# Altium footprint library AltiumLibraries.PcbLib: 91 footprints (part 4 of 6)
Each footprint in its own frame and in the unit in brackets; x right, y up, seen from the top. Pads: shape width x height; smd on the part's side, far side on the other; paste and mask are expansions set on the pad; w line width, h text height; cw(c..) or ccw(c..) is an arc to the next point about the centre after c.
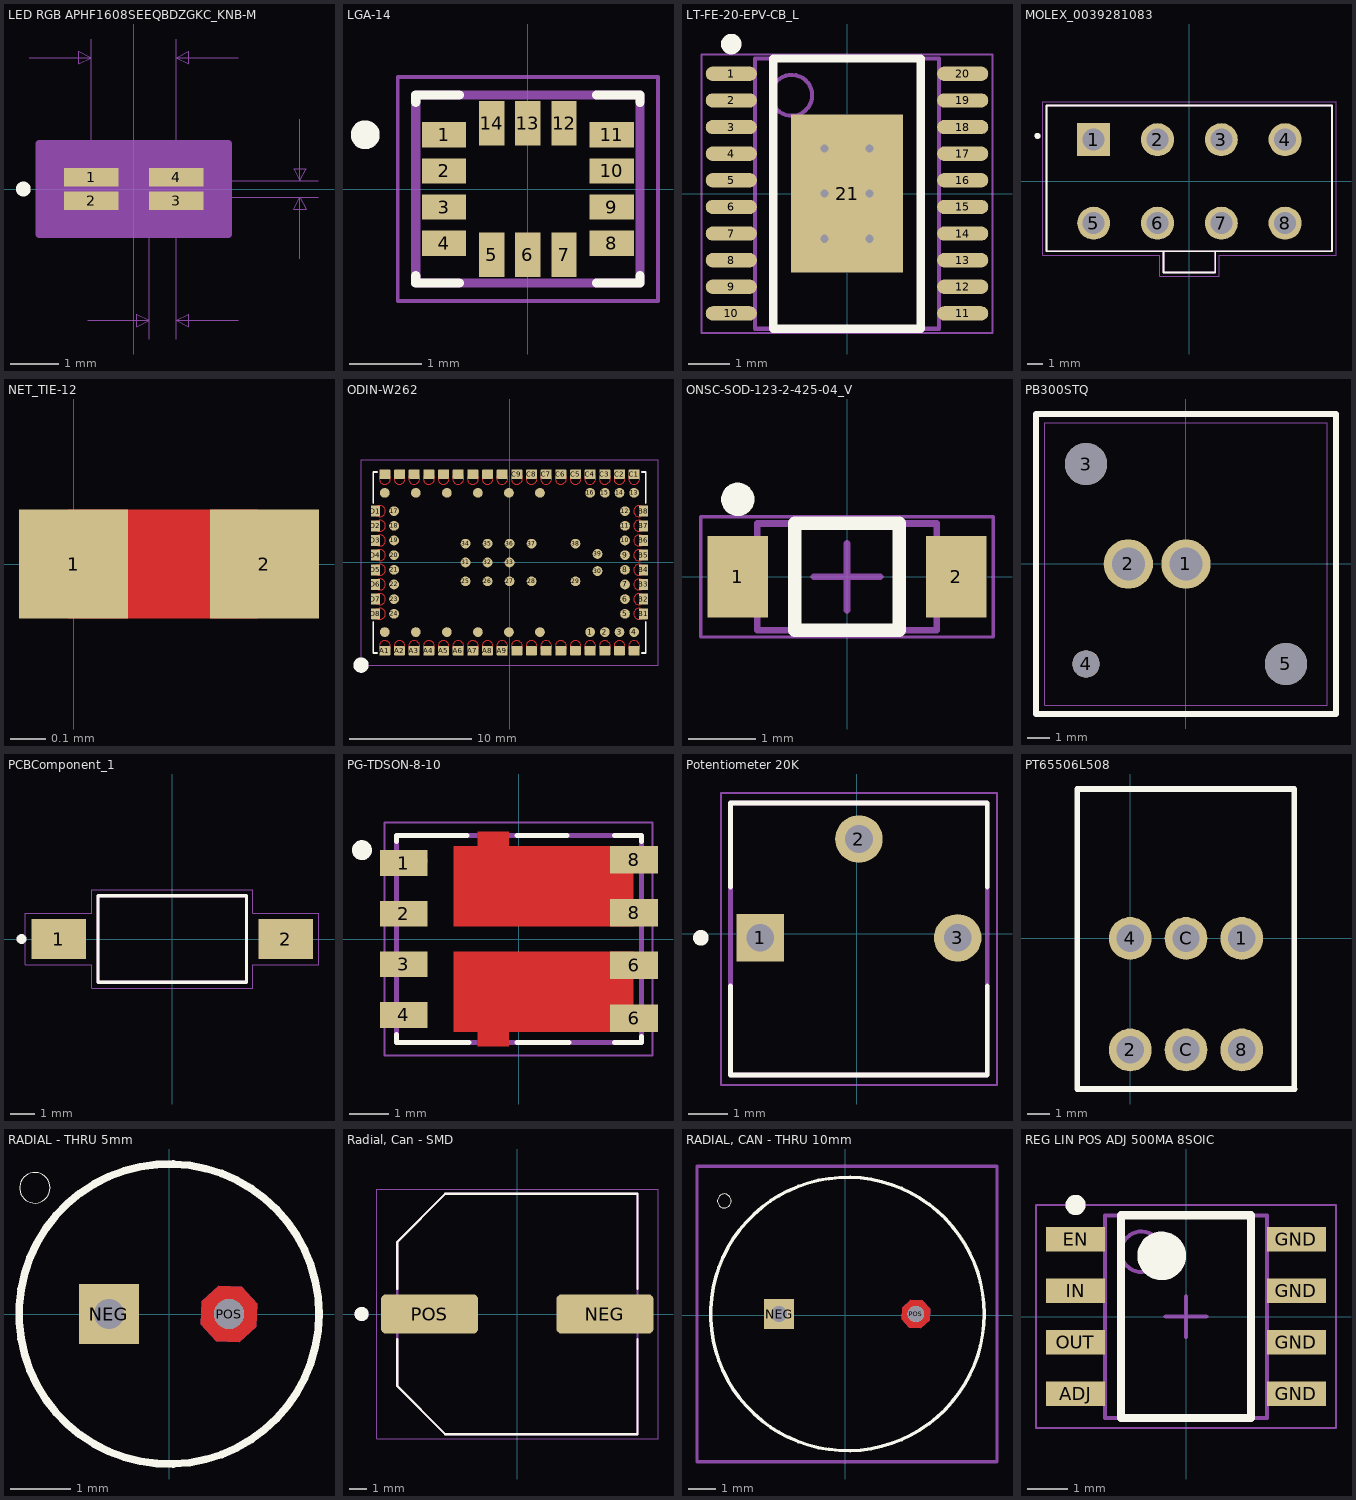
[diagram p3: the footprints below, top view; thin cyan lines are the x and y axes]

## LED RGB APHF1608SEEQBDZGKC_KNB-M [mil]
pads (4):
  rect 44x15 smd paste+0 mask+0: 1(-34.5,9.35) 2(-34.5,-9.35) 3(34.5,-9.35) 4(34.5,9.35)
Top Overlay:
  circle w6: c-89.5,0 r3
Mechanical 5:
  region: 71.5,-22.5 -71.5,-22.5 -71.5,22.5 71.5,22.5
Mechanical 7:
  lines w1: -84.5,106.5 -34.5,106.5 ; -37.5,-106.5 12.5,-106.5 ; -34.5,0 -34.5,121.5 ; 0,-6.5 149.5,-6.5 ; 0,6.5 149.5,6.5 ; 12.5,-121.5 12.5,0 ; 34.5,-121.5 34.5,0 34.5,121.5 ; 84.5,-106.5 34.5,-106.5 ; 84.5,106.5 34.5,106.5 ; 134.5,-56.5 134.5,-6.5 ; 134.5,56.5 134.5,6.5 ; -34.5,106.5 -44.5,111.5 -44.5,101.5 -34.5,106.5 ; 12.5,-106.5 2.5,-101.5 2.5,-111.5 12.5,-106.5 ; 34.5,-106.5 44.5,-101.5 44.5,-111.5 34.5,-106.5 ; 34.5,106.5 44.5,111.5 44.5,101.5 34.5,106.5 ; 134.5,-6.5 129.5,-16.5 139.5,-16.5 134.5,-6.5 ; 134.5,6.5 129.5,16.5 139.5,16.5 134.5,6.5
  text "Default Padstyle: RX44Y15D0T" at -350,-277.5 h50
  text "Alternate 1 Padstyle: OX60Y90D30P" at -412.5,-377.5 h50
  text "Alternate 2 Padstyle: OX90Y60D30P" at -412.5,-477.5 h50
  text "0.013in/0.33mm" at 154.5,-12.5 h25
  text "0.069in/1.753mm" at -93.75,126.5 h25
  text "0.022in/0.559mm" at -70.25,-151.5 h25
Mechanical 13:
  circle w0: c-29.5,9.35 r3
  lines w1: -34.5,-18.5 34.5,-18.5 34.5,18.5 -34.5,18.5 -34.5,-18.5 ; -34.5,-6.5 -34.5,6.5 -12.5,6.5 -12.5,-6.5 -34.5,-6.5 ; 12.5,-6.5 12.5,6.5 34.5,6.5 34.5,-6.5 12.5,-6.5
Mechanical 15:
  region: 76.5,-36.85 -76.5,-36.85 -76.5,36.85 76.5,36.85
  lines w6: -76.5,-36.85 -76.5,36.85 76.5,36.85 76.5,-36.85 -76.5,-36.85
3D body: height 10, standoff 0, extent 0,0 10,10

## LGA-14 [mm]
pads (14):
  rect 0.61x0.35 smd: 1(-1.16,0.75) 2(-1.16,0.25) 3(-1.16,-0.25) 4(-1.16,-0.75) 8(1.16,-0.75) 9(1.16,-0.25) 10(1.16,0.25) 11(1.16,0.75)
  rect 0.35x0.61 smd: 5(-0.5,-0.91) 6(0,-0.91) 7(0.5,-0.91) 12(0.5,0.91) 13(0,0.91) 14(-0.5,0.91)
Top Overlay:
  circle w0.2: c-2.25,0.75 r0.1
  lines w0.127: -1.55,-1.2 -1.55,-1.3 -0.95,-1.3 ; -1.55,1.2 -1.55,1.3 -0.95,1.3 ; 0.95,-1.3 1.55,-1.3 1.55,-1.2 ; 0.95,1.3 1.55,1.3 1.55,1.2
Mechanical 4:
  lines w0.127: -1.55,-1.3 1.55,-1.3 ; -1.55,-1.3 -1.55,1.3 ; -1.55,-1.3 1.55,-1.3 ; -1.55,-1.3 -1.55,1.3 ; -1.55,1.3 1.55,1.3 ; -1.55,1.3 1.55,1.3 ; 1.55,-1.3 1.55,1.3 ; 1.55,-1.3 1.55,1.3
Mechanical 16:
  lines w0.05: -1.8,-1.55 1.8,-1.55 1.8,1.55 -1.8,1.55 -1.8,-1.55

## LT-FE-20-EPV-CB_L [mm] "SOP, 20-Leads, Body 6.6x4.5mm, Pitch 0.65mm, Thermal Pad 3.86x2.74mm, IPC High Density"
height 1.2
pads (21):
  oval 1.25x0.35 smd: 1(-2.825,2.925) 2(-2.825,2.275) 3(-2.825,1.625) 4(-2.825,0.975) 5(-2.825,0.325) 6(-2.825,-0.325) 7(-2.825,-0.975) 8(-2.825,-1.625) 9(-2.825,-2.275) 10(-2.825,-2.925) 11(2.825,-2.925) 12(2.825,-2.275) 13(2.825,-1.625) 14(2.825,-0.975) 15(2.825,-0.325) 16(2.825,0.325) 17(2.825,0.975) 18(2.825,1.625) 19(2.825,2.275) 20(2.825,2.925)
  rect 2.74x3.86 smd: 21(0,0)
via -0.55,1.1 diameter 0.5 hole 0.2
via 0.55,1.1 diameter 0.5 hole 0.2
via -0.55,0 diameter 0.5 hole 0.2
via 0.55,0 diameter 0.5 hole 0.2
via -0.55,-1.1 diameter 0.5 hole 0.2
via 0.55,-1.1 diameter 0.5 hole 0.2
Top Overlay:
  circle w0.25: c-2.825,3.65 r0.125
  lines w0.2: -1.8,-3.3 -1.8,3.3 1.8,3.3 1.8,-3.3 -1.8,-3.3
Mechanical 13:
  circle w0.1: c-1.35,2.4 r0.5
  lines w0.1: -2.25,-3.3 -2.25,3.3 2.25,3.3 2.25,-3.3 -2.25,-3.3
Mechanical 15:
  lines w0.05: -3.55,-3.4 -3.55,3.4 3.55,3.4 3.55,-3.4 -3.55,-3.4
  lines w0.1: -0.5,0 0.5,0 ; 0,-0.5 0,0.5
3D body: height 1.2, standoff 0.05, extent -2.25,-3.3 2.25,3.3

## MOLEX_0039281083 [mm]
pads (8):
  rect 2.175x2.175 hole 1.45: 1(-6.3,2.75)
  round 2.175 hole 1.45: 2(-2.1,2.75) 3(2.1,2.75) 4(6.3,2.75) 5(-6.3,-2.75) 6(-2.1,-2.75) 7(2.1,-2.75) 8(6.3,-2.75)
Top Overlay:
  circle w0.2: c-10,3 r0.1
  lines w0.127: -1.7,-4.6 -9.4,-4.6 -9.4,5 9.4,5 9.4,-4.6 1.7,-4.6 ; -1.7,-4.6 1.7,-4.6 ; -1.7,-4.6 -1.7,-6 1.7,-6 1.7,-4.6
Mechanical 4:
  circle w0.2: c-10,3 r0.1
  circle w0.2: c-10,3 r0.1
  lines w0.127: -9.4,-4.6 -9.4,5 ; -9.4,-4.6 -1.7,-4.6 ; -9.4,-4.6 -9.4,5 ; -9.4,-4.6 -1.7,-4.6 ; -9.4,5 9.4,5 ; -9.4,5 9.4,5 ; -1.7,-6 1.7,-6 ; -1.7,-6 -1.7,-4.6 ; -1.7,-6 1.7,-6 ; -1.7,-6 -1.7,-4.6 ; -1.7,-4.6 1.7,-4.6 ; -1.7,-4.6 1.7,-4.6 ; 1.7,-6 1.7,-4.6 ; 1.7,-6 1.7,-4.6 ; 1.7,-4.6 9.4,-4.6 ; 1.7,-4.6 9.4,-4.6 ; 9.4,-4.6 9.4,5 ; 9.4,-4.6 9.4,5
Mechanical 15:
  lines w0.05: -9.65,-4.85 -1.95,-4.85 -1.95,-6.25 1.95,-6.25 1.95,-4.85 9.65,-4.85 9.65,5.25 -9.65,5.25 -9.65,-4.85

## NET_TIE-12 [mil] "12mil patch for net tie."
pads (2):
  rect 12x12 smd paste-12: 1(0,0) 2(21,0)
Top Layer:
  lines w12: 0,0 19.68,0

## ODIN-W262 [mm]
pads (103):
  round 0.8 smd: 1(6.6,-5.7) 2(7.8,-5.7) 3(9,-5.7) 4(10.2,-5.7) 5(9.45,-4.2) 6(9.45,-3) 7(9.45,-1.8) 8(9.45,-0.6) 9(9.45,0.6) 10(9.45,1.8) 11(9.45,3) 12(9.45,4.2) 13(10.2,5.7) 14(9,5.7) 15(7.8,5.7) 16(6.6,5.7) 17(-9.45,4.2) 18(-9.45,3) 19(-9.45,1.8) 20(-9.45,0.6) 21(-9.45,-0.6) 22(-9.45,-1.8) 23(-9.45,-3) 24(-9.45,-4.2) 25(-3.6,-1.54) 26(-1.8,-1.54) 27(0,-1.54) 28(1.8,-1.54) 29(5.4,-1.54) 30(7.2,-0.7) 31(-3.6,0) 32(-1.8,0) 33(0,0) 34(-3.6,1.54) 35(-1.8,1.54) 36(0,1.54) 37(1.8,1.54) 38(5.4,1.54) 39(7.2,0.7) TP1(2.49,-5.7) TP2(2.49,5.7) TP3(-0.05,-5.7) TP4(-0.05,5.7) TP5(-2.59,-5.7) TP6(-2.59,5.7) TP7(-5.13,-5.7) TP8(-5.13,5.7) TP9(-7.67,-5.7) TP10(-7.67,5.7) TP11(-10.21,-5.7) TP12(-10.21,5.7)
  rrect15% 0.9x0.75 smd paste-1 mask+0: A1(-10.2,-7.225) A2(-9,-7.225) A3(-7.8,-7.225) A4(-6.6,-7.225) A5(-5.4,-7.225) A6(-4.2,-7.225) A7(-3,-7.225) A8(-1.8,-7.225) A9(-0.6,-7.225) A10(0.6,-7.225) A11(1.8,-7.225) A12(3,-7.225) A13(4.2,-7.225) A14(5.4,-7.225) A15(6.6,-7.225) A16(7.8,-7.225) A17(9,-7.225) A18(10.2,-7.225) C1(10.2,7.225) C2(9,7.225) C3(7.8,7.225) C4(6.6,7.225) C5(5.4,7.225) C6(4.2,7.225) C7(3,7.225) C8(1.8,7.225) C9(0.6,7.225) C10(-0.6,7.225) C11(-1.8,7.225) C12(-3,7.225) C13(-4.2,7.225) C14(-5.4,7.225) C15(-6.6,7.225) C16(-7.8,7.225) C17(-9,7.225) C18(-10.2,7.225)
  rrect15% 0.75x0.9 smd paste-1 mask+0: B1(10.975,-4.2) B2(10.975,-3) B3(10.975,-1.8) B4(10.975,-0.6) B5(10.975,0.6) B6(10.975,1.8) B7(10.975,3) B8(10.975,4.2) D1(-10.975,4.2) D2(-10.975,3) D3(-10.975,1.8) D4(-10.975,0.6) D5(-10.975,-0.6) D6(-10.975,-1.8) D7(-10.975,-3) D8(-10.975,-4.2)
Top Layer:
  circle w0: c-3,-6.85 r0.45
  circle w0: c-1.8,-6.85 r0.45
  circle w0: c-0.6,-6.85 r0.45
  circle w0: c0.6,-6.85 r0.45
  circle w0: c1.8,-6.85 r0.45
  circle w0: c3,-6.85 r0.45
  circle w0: c4.2,-6.85 r0.45
  circle w0: c5.4,-6.85 r0.45
  circle w0: c6.6,-6.85 r0.45
  circle w0: c7.8,-6.85 r0.45
  circle w0: c9,-6.85 r0.45
  circle w0: c10.2,-6.85 r0.45
  circle w0: c-10.2,-6.85 r0.45
  circle w0: c-9,-6.85 r0.45
  circle w0: c-7.8,-6.85 r0.45
  circle w0: c-6.6,-6.85 r0.45
  circle w0: c-5.4,-6.85 r0.45
  circle w0: c-4.2,-6.85 r0.45
  circle w0: c3,6.85 r0.45
  circle w0: c1.8,6.85 r0.45
  circle w0: c0.6,6.85 r0.45
  circle w0: c-0.6,6.85 r0.45
  circle w0: c-1.8,6.85 r0.45
  circle w0: c-3,6.85 r0.45
  circle w0: c-4.2,6.85 r0.45
  circle w0: c-5.4,6.85 r0.45
  circle w0: c-6.6,6.85 r0.45
  circle w0: c-7.8,6.85 r0.45
  circle w0: c-9,6.85 r0.45
  circle w0: c-10.2,6.85 r0.45
  circle w0: c10.2,6.85 r0.45
  circle w0: c9,6.85 r0.45
  circle w0: c7.8,6.85 r0.45
  circle w0: c6.6,6.85 r0.45
  circle w0: c5.4,6.85 r0.45
  circle w0: c4.2,6.85 r0.45
  circle w0: c-10.6,4.2 r0.45
  circle w0: c-10.6,3 r0.45
  circle w0: c-10.6,1.8 r0.45
  circle w0: c-10.6,0.6 r0.45
  circle w0: c-10.6,-0.6 r0.45
  circle w0: c-10.6,-1.8 r0.45
  circle w0: c-10.6,-3 r0.45
  circle w0: c-10.6,-4.2 r0.45
  circle w0: c10.6,-4.2 r0.45
  circle w0: c10.6,-3 r0.45
  circle w0: c10.6,-1.8 r0.45
  circle w0: c10.6,-0.6 r0.45
  circle w0: c10.6,0.6 r0.45
  circle w0: c10.6,1.8 r0.45
  circle w0: c10.6,3 r0.45
  circle w0: c10.6,4.2 r0.45
Top Overlay:
  circle w0.75: c-12.15,-8.4 r0.25
  lines w0.15: -11.15,-4.85 -11.15,-7.4 -10.85,-7.4 ; -11.15,4.85 -11.15,7.4 -10.85,7.4 ; 10.85,-7.4 11.15,-7.4 11.15,-4.85 ; 10.85,7.4 11.15,7.4 11.15,4.85
Top Paste:
  drawing of 52 lines, arcs and shapes, not listed
Top Solder:
  drawing of 56 lines, arcs and shapes, not listed
Mechanical 13:
  lines w0.05: -0.5,0 0.5,0 ; 0,-0.5 0,0.5
Mechanical 15:
  lines w0.1: -12.15,-8.4 -12.15,8.4 12.15,8.4 12.15,-8.4 -12.15,-8.4
3D body "ODIN-W262-05B.stp": height 4.8, standoff 0, extent -11.15,-7.4 11.15,7.4

## ONSC-SOD-123-2-425-04_V [mm] "SOD, 2-Leads, Body 2.69x1.6mm"
height 1.35
pads (2):
  rect 0.91x1.22 smd: 1(-1.635,0) 2(1.635,0)
Top Overlay:
  circle w0.25: c-1.635,1.16 r0.125
  lines w0.2: -0.78,-0.8 -0.78,0.8 0.78,0.8 0.78,-0.8 -0.78,-0.8
Mechanical 13:
  lines w0.1: -1.345,-0.8 -1.345,0.8 1.345,0.8 1.345,-0.8 -1.345,-0.8
Mechanical 15:
  lines w0.05: -2.19,-0.9 -2.19,0.9 2.19,0.9 2.19,-0.9 -2.19,-0.9
  lines w0.1: -0.5,0 0.5,0 ; 0,-0.5 0,0.5
3D body: height 1.35, standoff 0, extent -1.345,-0.8 1.345,0.8

## PB300STQ [mm] "SWITCH PUSH SPST-NO 0.3A 28V"
pads (5):
  round 2.175 hole 1.45: 1(0,0) 2(-2.54,0)
  round 1.86 hole 1.86 unplated: 3(-4.4,4.4) 5(4.4,-4.4)
  round 1.2 hole 1.2 unplated: 4(-4.4,-4.4)
Top Overlay:
  lines w0.254: -6.604,-6.604 6.604,-6.604 6.604,6.604 -6.604,6.604 -6.604,-6.604
Mechanical 15:
  lines w0.051: -6.223,-6.223 6.223,-6.223 6.223,6.223 -6.223,6.223 -6.223,-6.223
3D body "PB300STQ.stp": height 10.35, standoff -3.25, extent -6.2,-6.2 6.2,6.2

## PCBComponent_1 [mm]
pads (2):
  rect 2.19x1.6 smd: 1(-4.59,0) 2(4.59,0)
Top Overlay:
  circle w0.2: c-6.096,0 r0.1
  lines w0.127: -3,-1.75 3,-1.75 3,1.75 -3,1.75 -3,-1.75
Mechanical 13:
  lines w0.127: -3,-1.75 3,-1.75 3,1.75 -3,1.75 -3,-1.75
Mechanical 15:
  lines w0.05: -5.935,-1.05 -5.935,1.05 -3.25,1.05 -3.25,2 3.25,2 3.25,1.05 5.935,1.05 5.935,-1.05 3.25,-1.05 3.25,-2 -3.25,-2 -3.25,-1.05 -5.935,-1.05

## PG-TDSON-8-10 [mm] "Infineon specific mosfet array footprint"
pads (8):
  rect 1.2x0.65 smd: 1(-2.89,1.905) 2(-2.89,0.635) 3(-2.89,-0.635) 4(-2.89,-1.905)
  rect 1.2x0.7 smd: 6(2.89,-1.99) 6(2.89,-0.66) 8(2.89,0.66) 8(2.89,1.99)
Top Layer:
  rectangle: -1.04,2.1 -0.25,2.7
  rectangle: -1.04,-2.7 -0.25,-2.1
  region: -1.64,-0.32 2.84,-0.32 2.87,-0.32 2.87,-2.33 -1.62,-2.33 -1.64,-2.33 -1.64,-2.31
  region: -1.64,2.33 2.84,2.33 2.87,2.33 2.87,0.32 -1.62,0.32 -1.64,0.32 -1.64,0.34
Top Overlay:
  circle w0.3: c-3.94,2.23 r0.1
  lines w0.127: -3.075,-2.4 -3.075,-2.6 -1.25,-2.6 ; -3.075,2.45 -3.075,2.6 -1.3,2.6 ; -0.05,-2.6 1.25,-2.6 ; -0.05,2.6 1.2,2.6 ; 2.4,-2.6 3.075,-2.6 3.075,-2.45 ; 2.4,2.6 3.075,2.6 3.075,2.45
Top Paste:
  rectangle: -1.12,0.97 -0.32,1.79
  rectangle: -1,0.91 -0.2,1.73
  rectangle: -1.06,-1.72 -0.26,-0.9
  rectangle: 0.59,0.87 1.39,1.69
  rectangle: 0.83,-1.73 1.63,-0.91
Top Solder:
  region: -1.101,-2.25 -0.2,-2.25 -0.2,-2.752 -1.101,-2.752
  region: -1.101,2.75 -0.2,2.75 -0.2,2.253 -1.101,2.253
Mechanical 4:
  circle w0.3: c-2.55,1.95 r0.1
  circle w0.3: c-2.55,1.95 r0.1
  lines w0.127: -3.075,-2.6 -3.075,2.6 ; -3.075,-2.6 3.075,-2.6 ; -3.075,-2.6 -3.075,2.6 ; -3.075,-2.6 3.075,-2.6 ; -3.075,2.6 3.075,2.6 ; -3.075,2.6 3.075,2.6 ; 3.075,-2.6 3.075,2.6 ; 3.075,-2.6 3.075,2.6
Mechanical 16:
  lines w0.05: -3.375,-2.925 -3.375,2.925 3.35,2.925 3.35,-2.925 -3.375,-2.925

## Potentiometer 20K [mm]
pads (3):
  rect 1.222x1.222 hole 0.714: 1(-2.48,-0.1)
  round 1.222 hole 0.714: 2(0.06,2.44) 3(2.6,-0.1)
Top Overlay:
  circle w0.2: c-4.004,-0.1 r0.1
  lines w0.127: -3.24,-3.63 3.36,-3.63 ; -3.24,-3.62 -3.24,-1.335 ; -3.24,1.205 -3.24,3.37 3.36,3.37 3.36,1.205 ; 3.36,-3.62 3.36,-1.335
Mechanical 4:
  lines w0.127: -3.24,-3.63 3.36,-3.63 ; -3.24,-3.63 -3.24,3.37 ; -3.24,-3.63 3.36,-3.63 ; -3.24,-3.63 -3.24,3.37 ; -3.24,3.37 3.36,3.37 ; -3.24,3.37 3.36,3.37 ; 3.36,-3.63 3.36,3.37 ; 3.36,-3.63 3.36,3.37
Mechanical 16:
  lines w0.05: -3.49,-3.88 3.61,-3.88 3.61,3.62 -3.49,3.62 -3.49,-3.88

## PT65506L508 [mm] "Rotary Dip Switch Hexadecimal Complement 16 Position Through Hole, Right Angle Rotary with Knob Actuator 150mA 24VDC"
pads (6):
  round 1.95 hole 1.25: 1(5.08,0) 2(0,-5.08) 4(0,0) 8(5.08,-5.08) C(2.54,-5.08) C(2.54,0)
Top Overlay:
  lines w0.254: -2.413,-6.858 -1.651,-6.858 7.493,-6.858 7.468,-6.833 7.468,6.807 -2.413,6.807 -2.413,-6.858
3D body "PT65101L508--3DModel-STEP-56544.STEP": height 10, standoff -4, extent -2.482,-5.217 7.518,6.883

## RADIAL - THRU 5mm [mm] "Through Hole"
pads (2):
  rect 1.008x1.008 hole 0.5: NEG(-1,0)
  round 0.5 hole 0.5: POS(1,0)
Top Layer:
  region: 1.474,0.172 1.213,0.457 0.828,0.474 0.543,0.213 0.526,-0.172 0.787,-0.457 1.172,-0.474 1.457,-0.213
Bottom Layer:
  region: 1.474,0.172 1.213,0.457 0.828,0.474 0.543,0.213 0.526,-0.172 0.787,-0.457 1.172,-0.474 1.457,-0.213
Top Overlay:
  circle w0.127: c0,0 r2.5
  circle w0: c-2.236,2.103 r0.254
Multi-Layer:
  region: 1.474,0.172 1.213,0.457 0.828,0.474 0.543,0.213 0.526,-0.172 0.787,-0.457 1.172,-0.474 1.457,-0.213

## Radial, Can - SMD [mm]
pads (2):
  rrect25% 5.46x2.21 smd: NEG(4.925,0) POS(-4.925,0)
Top Overlay:
  circle w0.4: c-8.75,0 r0.2
  lines w0.127: -6.75,-1.42 -6.75,-4.05 -4.05,-6.752 6.75,-6.752 6.75,-1.42 ; -6.75,1.42 -6.75,4.05 -4.05,6.752 6.75,6.752 6.75,1.42
Mechanical 13:
  circle w0.4: c-8.75,0 r0.2
  lines w0.127: -6.75,-4.05 -4.05,-6.75 6.75,-6.75 6.75,6.75 -4.05,6.75 -6.75,4.05 -6.75,-4.05
Mechanical 15:
  lines w0.05: -7.905,-7 -7.905,7 7.905,7 7.905,-7 -7.905,-7

## RADIAL, CAN - THRU 10mm [mm]
pads (2):
  rect 1.108x1.108 hole 0.6: NEG(-2.424,0.051)
  round 0.6 hole 0.6: POS(2.576,0.051)
Top Layer:
  region: 3.097,0.24 2.81,0.553 2.387,0.571 2.074,0.285 2.056,-0.139 2.342,-0.451 2.766,-0.47 3.078,-0.183
Bottom Layer:
  region: 3.097,0.24 2.81,0.553 2.387,0.571 2.074,0.285 2.056,-0.139 2.342,-0.451 2.766,-0.47 3.078,-0.183
Top Overlay:
  circle w0.127: c0.076,0.051 r5
  circle w0: c-4.424,4.186 r0.254
Mechanical 16:
  lines w0.127: -5.424,-5.349 5.546,-5.349 5.546,5.451 -5.424,5.451 -5.424,-5.349
Multi-Layer:
  region: 3.097,0.24 2.81,0.553 2.387,0.571 2.074,0.285 2.056,-0.139 2.342,-0.451 2.766,-0.47 3.078,-0.183

## REG LIN POS ADJ 500MA 8SOIC [mm] "Linear Voltage Regulator IC  1 Output  500mA 8-SOIC"
height 1.75
pads (8):
  rect 1.45x0.6 smd: ADJ(-2.725,-1.905) EN(-2.725,1.905) GND(2.725,-1.905) GND(2.725,-0.635) GND(2.725,0.635) GND(2.725,1.905) IN(-2.725,0.635) OUT(-2.725,-0.635)
Top Overlay:
  circle w0.25: c-2.725,2.755 r0.125
  circle w0.6: c-0.6,1.5 r0.3
  lines w0.2: -1.6,-2.5 -1.6,2.5 1.6,2.5 1.6,-2.5 -1.6,-2.5
Mechanical 13:
  circle w0.1: c-1.1,1.6 r0.5
  lines w0.1: -2,-2.5 -2,2.5 2,2.5 2,-2.5 -2,-2.5
Mechanical 15:
  lines w0.05: -3.7,-2.75 -3.7,2.75 3.7,2.75 3.7,-2.75 -3.7,-2.75
  lines w0.1: -0.5,0 0.5,0 ; 0,-0.5 0,0.5
3D body: height 1.75, standoff 0.1, extent -2,-2.5 2,2.5